# Altium footprint library WSON.PcbLib: 3 footprints
Each footprint in its own frame and in the unit in brackets; x right, y up, seen from the top. Pads: shape width x height; smd on the part's side, far side on the other; paste and mask are expansions set on the pad; w line width, h text height; cw(c..) or ccw(c..) is an arc to the next point about the centre after c.
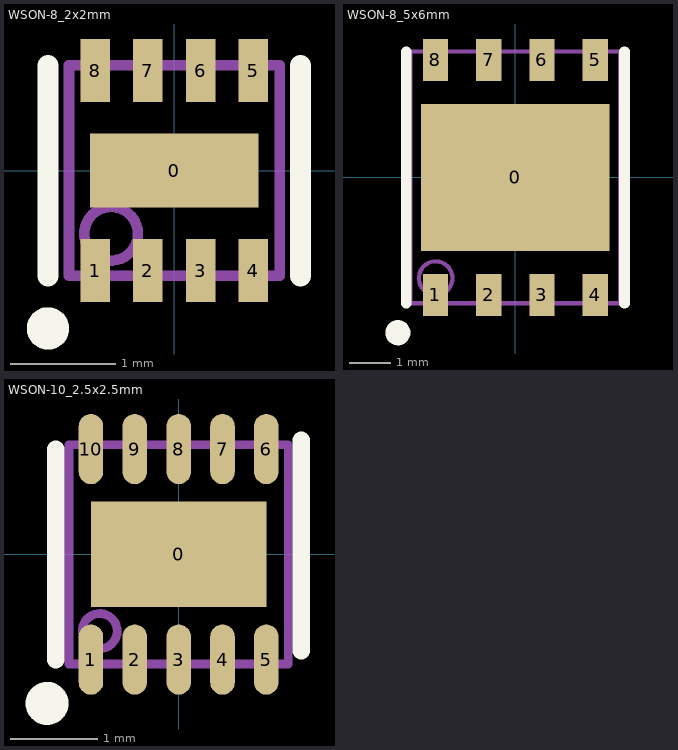
[diagram p0: the footprints below, top view; thin cyan lines are the x and y axes]

## WSON-8_2x2mm [mm]
pads (9):
  rect 1.6x0.7 smd mask+0.051: 0(0,0)
  rect 0.28x0.6 smd mask+0.051: 1(-0.75,-0.95) 2(-0.25,-0.95) 3(0.25,-0.95) 4(0.75,-0.95) 5(0.75,0.95) 6(0.25,0.95) 7(-0.25,0.95) 8(-0.75,0.95)
Top Overlay:
  circle w0.203: c-1.2,-1.5 r0.1
  lines w0.2: -1.2,-1 -1.2,1 ; 1.2,-1 1.2,1
Mechanical 13:
  circle w0.1: c-0.6,-0.6 r0.255
  lines w0.1: -1,-1 1,-1 1,1 -1,1 -1,-1

## WSON-8_5x6mm [mm]
pads (9):
  rect 4.5x3.5 smd: 0(0,0)
  rect 0.6x1 smd: 1(-1.905,-2.8) 2(-0.635,-2.8) 3(0.635,-2.8) 4(1.905,-2.8) 5(1.905,2.8) 6(0.635,2.8) 7(-0.635,2.8) 8(-1.905,2.8)
Top Overlay:
  circle w0.3: c-2.8,-3.7 r0.15
  lines w0.254: -2.6,-3 -2.6,3 ; 2.6,-3 2.6,3
Mechanical 13:
  circle w0.1: c-1.9,-2.4 r0.4
  lines w0.1: -2.5,-3 -2.5,3 2.5,3 2.5,-3 -2.5,-3

## WSON-10_2.5x2.5mm [mm]
pads (11):
  rect 2x1.2 smd mask+0.051: 0(0,0)
  oval 0.28x0.8 smd paste-0.025 mask+0.051: 1(-1,-1.2) 2(-0.5,-1.2) 3(0,-1.2) 4(0.5,-1.2) 5(1,-1.2) 6(1,1.2) 7(0.5,1.2) 8(0,1.2) 9(-0.5,1.2) 10(-1,1.2)
Top Overlay:
  circle w0.25: c-1.5,-1.7 r0.12
  lines w0.2: -1.4,-1.2 -1.4,1.2 ; 1.4,-1.1 1.4,1.3
Mechanical 13:
  circle w0.1: c-0.9,-0.875 r0.2
  lines w0.1: -1.25,-1.25 1.25,-1.25 1.25,1.25 -1.25,1.25 -1.25,-1.25